# Altium schematic symbol library S905D_MIC_V1.1.SCHLIB: 16 symbols
Pins are listed as number, name and electrical type; pins without a type are passive.

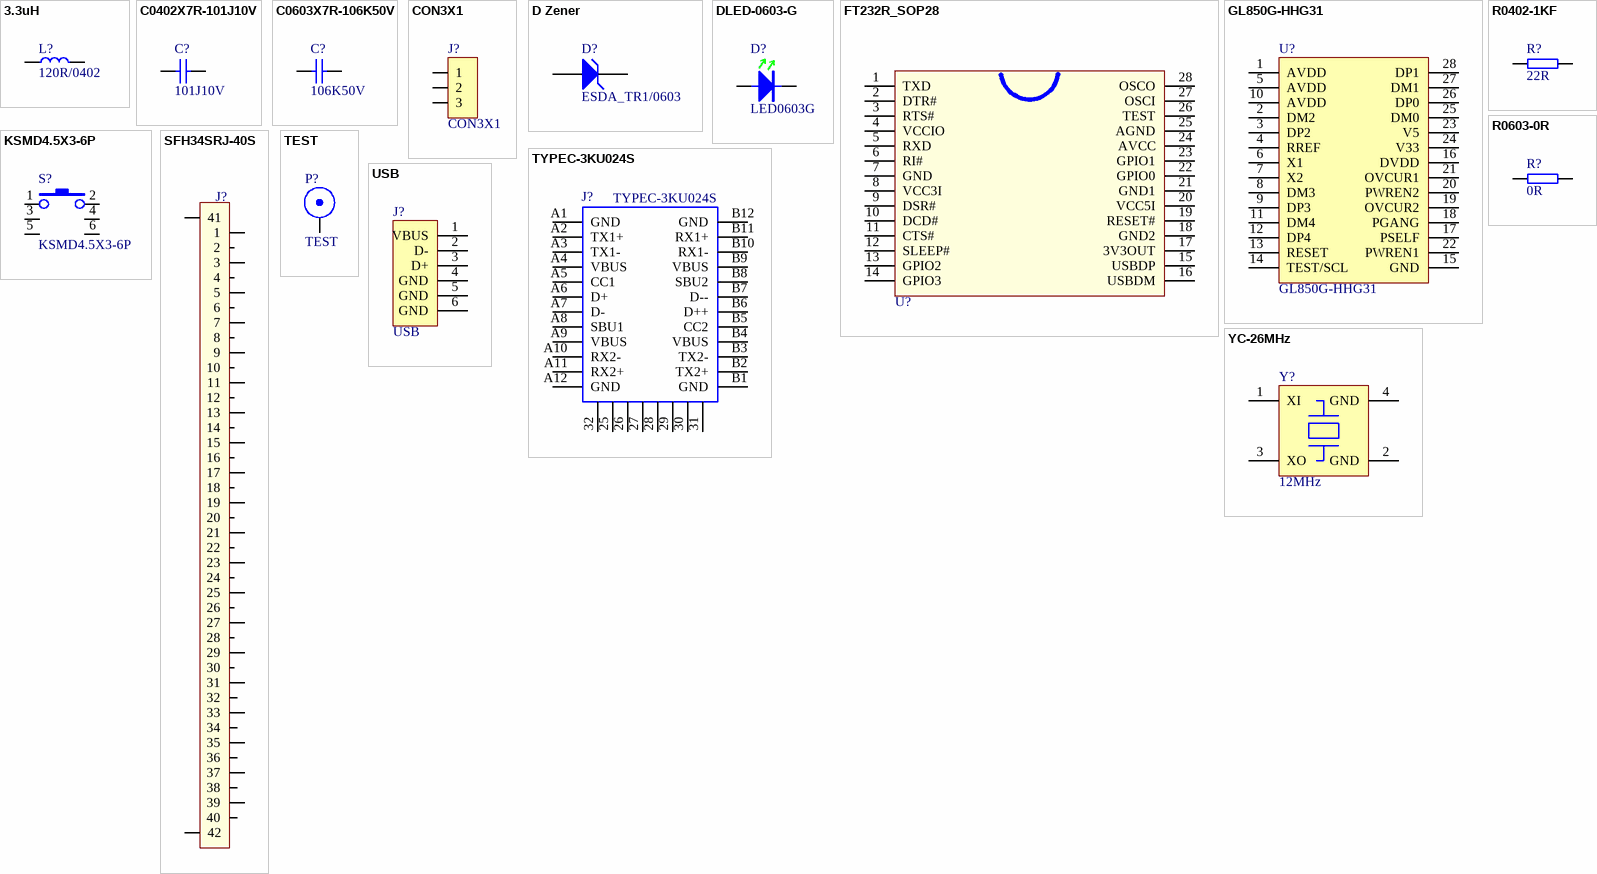
[diagram p0: symbols 3.3uH to YC-26MHz]

## 3.3uH
designator L?, comment 120R/0402
贴片电感-屏蔽; 生产商: *; 供应商: *; 备注: *
footprint C0402
pins: 1, 2

## C0402X7R-101J10V
designator C?, comment 101J10V
贴片电容-陶瓷; 规格型号: 100pF±5%_10V_X7R_C0402; 生产商: 风华 三星; 供应商: *; 备注: *
footprint C0402
pins: 1, 2

## C0603X7R-106K50V
designator C?, comment 106K50V
贴片电容-陶瓷; 规格型号: 10uF±10%_50V_X7R_C0603; 生产商: 风华 三星; 供应商: *; 备注: *
footprint C0603
pins: 1, 2

## CON3X1
designator J?
footprint XH2.54-3P - 弯插
footprint IDC3X1-3.96mm
pins: 1, 2, 3

## D Zener
designator D?, comment ESDA_TR1/0603
Zener Diode; Published: *; LatestRevisionDate: *; LatestRevisionNote: *; PackageReference: *; Publisher: *
footprint HS_0603D
pins: 1 A, 2 K
2 alternate drawings of the same symbol

## DLED-0603-G
designator D?, comment LED0603G
贴片二极管-LED; 规格型号: 0603-GREEN; 货品编码: 无样品无编码; 生产商: *; 供应商: *; 备注: *
footprint D-LED0603G
pins: 1, 2

## FT232R_SOP28
designator U?  (value not drawn)
USB 转串口芯片; 物料代码: 2.01.08.075
footprint SSOP28
pins: 1 TXD, 2 DTR#, 3 RTS#, 4 VCCIO, 5 RXD, 6 RI#, 7 GND, 8 VCC3I, 9 DSR#, 10 DCD#, 11 CTS#, 12 SLEEP#, 13 GPIO2, 14 GPIO3, 15 USBDP, 16 USBDM, 17 3V3OUT, 18 GND2, 19 RESET#, 20 VCC5I, 21 GND1, 22 GPIO0, 23 GPIO1, 24 AVCC, 25 AGND, 26 TEST, 27 OSCI, 28 OSCO

## GL850G-HHG31
designator U?
footprint SSOP28
pins: 1 AVDD, 2 DM2, 3 DP2, 4 RREF, 5 AVDD, 6 X1, 7 X2, 8 DM3, 9 DP3, 10 AVDD, 11 DM4, 12 DP4, 13 RESET, 14 TEST/SCL, 15 GND, 16 DVDD, 17 PSELF, 18 PGANG, 19 OVCUR2, 20 PWREN2, 21 OVCUR1, 22 PWREN1, 23 V5, 24 V33, 25 DM0, 26 DP0, 27 DM1, 28 DP1

## KSMD4.5X3-6P
designator S?
贴片侧按键; 货品编码: 232013; 规格型号: 6x6 SMD贴片按键; 备注: *; 供应商: *; 生产商: *
footprint K_SMD (6mmX6mm)
footprint SKRTLAE010
pins: 1, 2, 3 1, 4 2, 5 1, 6 2

## R0402-1KF
designator R?, comment 22R
贴片电阻-通用; 生产商: 厚声 国巨; 规格型号: 1K±1%_1/10W_±200ppm_R0402; 备注: *; 供应商: *
footprint R0402
pins: 1, 2

## R0603-0R
designator R?, comment 0R
贴片电阻-通用; 生产商: 厚声 国巨; 规格型号: 0R_1/10W_±200ppm_R0603; 货品编码: 无样品无编码; 备注: *; 供应商: *
footprint R0603
pins: 1, 2

## SFH34SRJ-40S
designator J?, comment FH34SRJ-40S  (value not drawn)
贴片FPC40PIN插座; PCB DECAL: SIP-8P
footprint FH34SRJ-40S
footprint SIP2.54-30排母
pins: 1, 2, 3, 4, 5, 6, 7, 8, 9, 10, 11, 12, 13, 14, 15, 16, 17, 18, 19, 20, 21, 22, 23, 24, 25, 26, 27, 28, 29, 30, 31, 32, 33, 34, 35, 36, 37, 38, 39, 40, 41, 42

## TEST
designator P?
BNC Elbow Connector; LatestRevisionDate: 17-Jul-2002; LatestRevisionNote: Re-released for DXP Platform.; Publisher: Altium Limited
footprint TP
pins: 1 Y1

## TYPEC-3KU024S
designator J?
DIP Switch; Published: 24-Mar-1999; LatestRevisionDate: 17-Jul-2002; LatestRevisionNote: Re-released for DXP Platform.; PackageReference: DIP-18; Publisher: Altium Limited; Code_JEDEC: MO-036-AE
footprint MICRO -TYPE C
pins: 25, 26 B13, 27 B14, 28 B15, 29 B16, 30 B17, 31 B18, 32 B13, A1 GND, A2 TX1+, A3 TX1-, A4 VBUS, A5 CC1, A6 D+, A7 D-, A8 SBU1, A9 VBUS, A10 RX2-, A11 RX2+, A12 GND, B1 GND, B2 TX2+, B3 TX2-, B4 VBUS, B5 CC2, B6 D++, B7 D--, B8 SBU2, B9 VBUS, B10 RX1-, B11 RX1+, B12 GND

## USB
designator J?
footprint USB-AD
pins: 1 VBUS, 2 D-, 3 D+, 4 GND, 5 GND, 6 GND

## YC-26MHz
designator Y?, comment 12MHz
晶振-贴片无源; 规格型号: 26MHz_贴片晶振3225; 货品编码: 无样品无编码; 生产商: *; 供应商: *; 备注: *
footprint Y-CPX-32GA-4P
pins: 1 XI, 2 GND, 3 XO, 4 GND
2 alternate drawings of the same symbol